# Altium footprint library 封装库.PCBLIB: 282 footprints (part 7 of 18)
Each footprint in its own frame and in the unit in brackets; x right, y up, seen from the top. Pads: shape width x height; smd on the part's side, far side on the other; paste and mask are expansions set on the pad; w line width, h text height; cw(c..) or ccw(c..) is an arc to the next point about the centre after c.
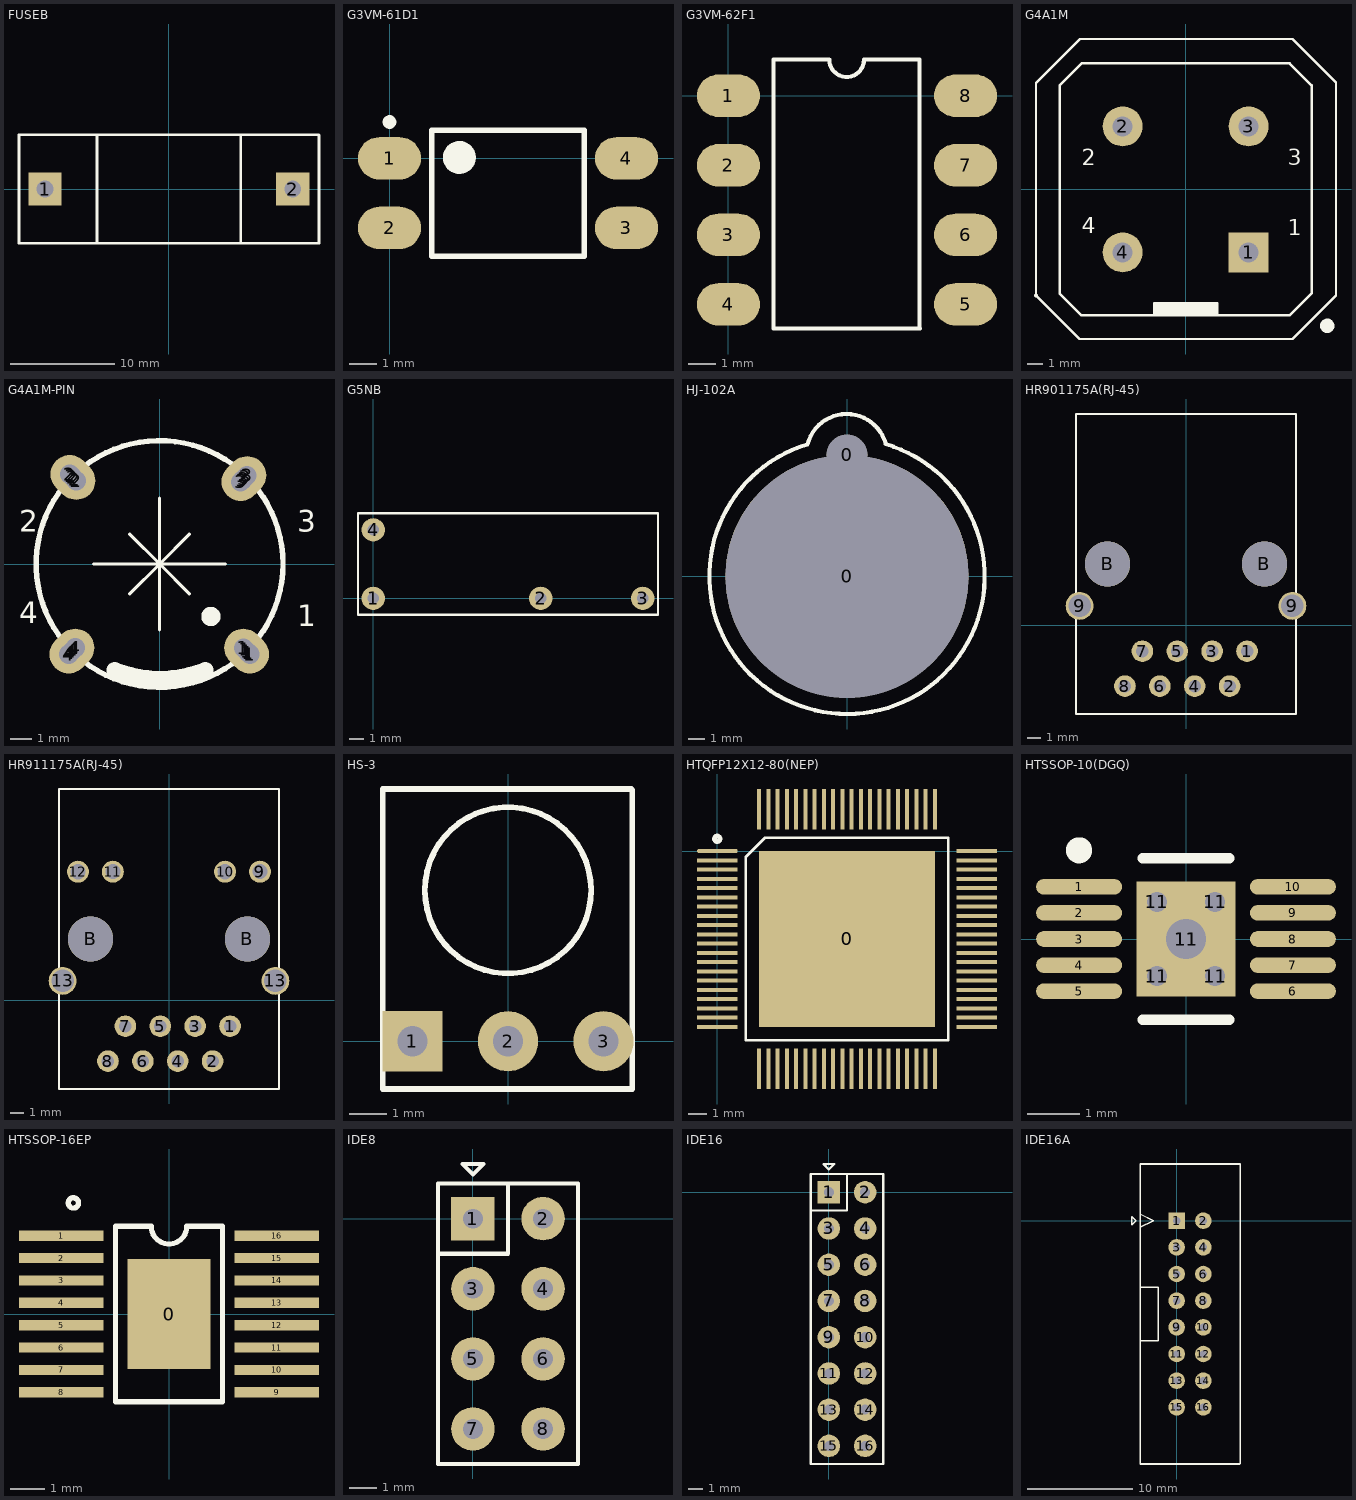
[diagram p6: the footprints below, top view; thin cyan lines are the x and y axes]

## FUSEB [mm]
pads (2):
  rect 3.2x3.2 hole 1.6: 1(-11.9,0) 2(11.9,0)
TopOverlay:
  lines w0.254: -14.4,-0.051 -14.4,5.205 ; -14.395,1.275 -14.395,-5.2 ; -12.7,-5.2 14.42,-5.2 ; -11.938,-5.2 -14.395,-5.2 ; -9.017,5.2 -14.395,5.2 ; -6.909,5.2 -6.9,5.191 -6.9,0 ; -6.9,-5.191 -6.9,4.851 ; 6.9,-5.198 6.9,4.928 ; 6.9,-0.254 6.9,5.191 ; 10.929,5.2 14.409,5.2 ; 14.42,2.66 14.42,-5.2 ; -14.4,5.205 -14.395,5.2 ; -14.4,5.205 -14.395,5.2 ; -14.4,5.205 -14.395,5.2 ; -14.4,5.205 -14.395,5.2 ; -14.395,-5.2 14.42,-5.2 ; -14.395,-5.2 -14.395,5.2 ; -14.395,5.2 14.409,5.2 ; 14.409,5.2 14.42,5.189 ; 14.42,-5.2 14.42,5.189 ; 14.42,-5.2 14.42,5.189

## G3VM-61D1 [mm]
height 3.65
pads (4):
  oval 2.3x1.55 smd: 1(0,0) 2(0,-2.54) 3(8.65,-2.54) 4(8.65,0)
TopOverlay:
  circle w0.6: c2.55,0.03 r0.3
  circle w0.25: c0,1.325 r0.125
  lines w0.2: 1.55,-3.57 7.1,-3.57 7.1,1.03 1.55,1.03 1.55,-3.57

## G3VM-62F1 [mm]
height 3.65
pads (8):
  oval 2.3x1.55 smd: 1(0,0) 2(0,-2.54) 3(0,-5.08) 4(0,-7.62) 5(8.661,-7.62) 6(8.661,-5.08) 7(8.661,-2.54) 8(8.661,0)
TopOverlay:
  lines w0.152: 1.651,-8.509 1.651,1.321 3.683,1.321 ccw(c4.318,1.321) 4.953,1.321 6.985,1.321 6.985,-8.509 ; 1.664,-8.509 6.998,-8.509

## G4A1M [mm]
pads (4):
  rect 2.54x2.54 / inner round 1.6 / far side rect 1.6x1.6 hole 1.27: 1(4,-4)
  round 2.54 hole 1.27: 2(-4,4) 3(4,4) 4(-4,-4)
TopOverlay:
  circle w0.508: c8.995,-8.661 r0.2
  rectangle: -2,-7.993 2,-7.239
  lines w0.152: -9.5,0 -9.5,6.757 ; -9.5,5.613 -9.5,-6.731 -6.731,-9.5 -0.33,-9.5 6.781,-9.5 9.55,-6.731 9.55,6.781 6.781,9.55 -6.706,9.55 -9.475,6.781 ; -8,-6.605 -6.604,-8.001 ; -8,-6.604 -8,6.604 ; -8,0.762 -8,6.604 ; -6.604,-8 6.604,-8 ; -2,-7.993 -2,-7.239 0,-7.239 2,-7.239 2,-7.993 ; 6.603,7.999 -6.605,7.999 -8,6.604 ; 6.605,-8 8,-6.605 ; 6.605,7.999 8,6.604 8,-6.604
  lines w0.254: -9.5,-6.731 -9.5,-6.731
  text "1" at 6.477,-2.921 h1.02
  text "2" at -6.604,1.524 h1.02
  text "3" at 6.477,1.524 h1.02
  text "4" at -6.604,-2.794 h1.02

## G4A1M-PIN [mm]
pads (20):
  round 1.8 hole 0.9: 1(3.94,-3.94) 1(4.016,-4.016) 1(4.092,-4.092) 1(4.168,-4.168) 1(4.244,-4.244) 2(-4.22,4.22) 2(-4.144,4.144) 2(-4.068,4.068) 2(-3.991,3.991) 2(-3.915,3.915) 3(3.81,3.861) 3(3.886,3.937) 3(3.962,4.013) 3(4.039,4.089) 3(4.115,4.166) 4(-4.267,-4.242) 4(-4.191,-4.166) 4(-4.115,-4.089) 4(-4.039,-4.013) 4(-3.962,-3.937)
TopOverlay:
  circle w0.254: c0,0 r5.8
  circle w0.508: c2.416,-2.464 r0.2
  lines w0.152: -3.099,0 0,0 ; -1.397,-1.397 0,0 ; -1.397,1.397 0,0 ; 0,-3.099 0,0 ; 0,3.099 0,0 ; 1.397,-1.397 0,0 ; 1.397,1.397 0,0 ; 3.099,0 0,0
  lines w0.254: -4.623,-4.521 -4.572,-4.521
  lines w0.762: -2.108,-4.978 ccw(c0.021,0.161) 2.149,-4.978
  text "4" at -6.604,-2.794 h1.02
  text "3" at 6.477,1.524 h1.02
  text "2" at -6.604,1.524 h1.02
  text "1" at 6.477,-2.921 h1.02

## G5NB [mm] "继电器AC250V,5A"
pads (4):
  round 1.6 hole 0.8: 1(0,0) 2(11.5,0) 3(18.5,0) 4(0,4.7)
TopOverlay:
  lines w0.152: -1.05,-1.15 -1.05,5.85 19.55,5.85 ; -1.05,-1.134 19.55,-1.134 19.55,5.866

## HJ-102A [mm]
pads (2):
  round 15 hole 15: 0(0,0)
  round 2.5 hole 2.5: 0(0,7.493)
TopOverlay:
  lines w0.254: -2.459,8.137 ccw(c0,0) 2.396,8.155 ; -2.438,8.153 cw(c-0.021,7.518) 2.395,8.164

## HR901175A(RJ-45) [mil]
pads (12):
  round 62 hole 36: 1(175,-75) 2(125,-175) 3(75,-75) 4(25,-175) 5(-25,-75) 6(-75,-175) 7(-125,-75) 8(-175,-175)
  round 80 hole 65: 9(-305,55) 9(305,55)
  round 130 hole 130: B(-225,175) B(225,175)
TopOverlay:
  lines w6: -315,-255 315,-255 315,605 -315,605 -315,-255

## HR911175A(RJ-45) [mil]
pads (16):
  round 62 hole 36: 1(175,-75) 2(125,-175) 3(75,-75) 4(25,-175) 5(-25,-75) 6(-75,-175) 7(-125,-75) 8(-175,-175)
  round 62.99 hole 43.31: 9(260.83,368) 10(160.83,367.91) 11(-161,368) 12(-261,367.91)
  round 80 hole 65: 13(-305,55) 13(305,55)
  round 130 hole 130: B(-225,175) B(225,175)
TopOverlay:
  lines w6: -315,-255 -315,605 315,605 315,-255 -315,-255

## HS-3 [mm]
pads (3):
  rect 1.6x1.6 hole 0.8: 1(-2.54,0)
  round 1.6 hole 0.8: 2(0,0) 3(2.54,0)
TopOverlay:
  circle w0.152: c0,4.013 r2.21
  lines w0.152: 3.302,0.432 3.302,6.68 3.277,6.706 -3.327,6.706 -3.327,1.27 -3.327,-1.27 3.302,-1.27 3.302,0.737

## HTQFP12X12-80(NEP) [mm]
pads (81):
  rect 9.5x9.5 smd: 0(7.01,-4.75)
  oval 2.2x0.22 smd: 1(0,0)
  rect 2.2x0.22 smd: 2(0,-0.5) 3(0,-1) 4(0,-1.5) 5(0,-2) 6(0,-2.5) 7(0,-3) 8(0,-3.5) 9(0,-4) 10(0,-4.5) 11(0,-5) 12(0,-5.5) 13(0,-6) 14(0,-6.5) 15(0,-7) 16(0,-7.5) 17(0,-8) 18(0,-8.5) 19(0,-9) 20(0,-9.5) 41(14,-9.5) 42(14,-9) 43(14,-8.5) 44(14,-8) 45(14,-7.5) 46(14,-7) 47(14,-6.5) 48(14,-6) 49(14,-5.5) 50(14,-5) 51(14,-4.5) 52(14,-4) 53(14,-3.5) 54(14,-3) 55(14,-2.5) 56(14,-2) 57(14,-1.5) 58(14,-1) 59(14,-0.5) 60(14,0)
  rect 0.22x2.2 smd: 21(2.25,-11.75) 22(2.75,-11.75) 23(3.25,-11.75) 24(3.75,-11.75) 25(4.25,-11.75) 26(4.75,-11.75) 27(5.25,-11.75) 28(5.75,-11.75) 29(6.25,-11.75) 30(6.75,-11.75) 31(7.25,-11.75) 32(7.75,-11.75) 33(8.25,-11.75) 34(8.75,-11.75) 35(9.25,-11.75) 36(9.75,-11.75) 37(10.25,-11.75) 38(10.75,-11.75) 39(11.25,-11.75) 40(11.75,-11.75) 61(11.75,2.25) 62(11.25,2.25) 63(10.75,2.25) 64(10.25,2.25) 65(9.75,2.25) 66(9.25,2.25) 67(8.75,2.25) 68(8.25,2.25) 69(7.75,2.25) 70(7.25,2.25) 71(6.75,2.25) 72(6.25,2.25) 73(5.75,2.25) 74(5.25,2.25) 75(4.75,2.25) 76(4.25,2.25) 77(3.75,2.25) 78(3.25,2.25) 79(2.75,2.25) 80(2.25,2.25)
TopOverlay:
  circle w0.254: c-0.008,0.66 r0.15
  lines w0.152: 1.535,-10.215 12.465,-10.215 12.465,0.715 2.57,0.715 1.535,-0.32 1.535,-10.215

## HTSSOP-10(DGQ) [mm] "HTSSOP, 10-Leads, Body 3.1x3.1mm (max), Pitch 0.50mm, IPC Medium Density"
height 1.1
pads (16):
  oval 1.65x0.3 smd: 1(-2.05,1) 2(-2.05,0.5) 3(-2.05,0) 4(-2.05,-0.5) 5(-2.05,-1) 6(2.05,-1) 7(2.05,-0.5) 8(2.05,0) 9(2.05,0.5) 10(2.05,1)
  round 0.635 hole 0.381: 11(-0.559,-0.711) 11(-0.559,0.711) 11(0.559,-0.711) 11(0.559,0.711)
  rect 1.9x2.2 smd: 11(0,0)
  round 1.27 hole 0.762: 11(0,0)
TopOverlay:
  circle w0.25: c-2.05,1.7 r0.125
  lines w0.1: -0.5,0 0.5,0 ; 0,-0.5 0,0.5
  lines w0.2: -0.825,-1.55 0.825,-1.55 ; -0.825,1.55 0.825,1.55

## HTSSOP-16EP [mm]
pads (17):
  rect 2.4x3.2 smd: 0(0,0)
  rect 2.45x0.3 smd: 1(-3.131,2.275) 2(-3.131,1.625) 3(-3.131,0.975) 4(-3.131,0.325) 5(-3.131,-0.325) 6(-3.131,-0.975) 7(-3.131,-1.625) 8(-3.131,-2.275) 9(3.131,-2.275) 10(3.131,-1.625) 11(3.131,-0.975) 12(3.131,-0.325) 13(3.131,0.325) 14(3.131,0.975) 15(3.131,1.625) 16(3.131,2.275)
TopOverlay:
  circle w0.152: c-2.775,3.225 r0.15
  lines w0.152: -1.55,-2.55 1.55,-2.55 1.55,2.55 0.517,2.55 cw(c0,2.55) -0.517,2.55 -1.55,2.55 -1.55,-2.55

## IDE8 [mil] "PIN Header Dual Row,2.54mm"
pads (8):
  rect 62x62 hole 28: 1(0,0)
  round 62 hole 28: 2(100,0) 3(0,-100) 4(100,-100) 5(0,-200) 6(100,-200) 7(0,-300) 8(100,-300)
TopOverlay:
  lines w6: -50,-50 50,-50 50,50 ; -50,-350 150,-350 150,50 -50,50 -50,-350 ; -15,78 0,63 15,78 -15,78

## IDE16 [mil] "PIN Header Dual Row,2.54mm"
pads (16):
  rect 62x62 hole 28: 1(0,0)
  round 62 hole 28: 2(100,0) 3(0,-100) 4(100,-100) 5(0,-200) 6(100,-200) 7(0,-300) 8(100,-300) 9(0,-400) 10(100,-400) 11(0,-500) 12(100,-500) 13(0,-600) 14(100,-600) 15(0,-700) 16(100,-700)
TopOverlay:
  lines w6: -50,-50 50,-50 50,50 ; -33,-750 150,-750 150,50 -50,50 -50,-750 100,-750 ; -15,78 15,78 0,63 -15,78

## IDE16A [mil] "box header,2.54mm"
pads (16):
  rect 62x62 hole 28: 1(0,0)
  round 62 hole 28: 2(100,0) 3(0,-100) 4(100,-100) 5(0,-200) 6(100,-200) 7(0,-300) 8(100,-300) 9(0,-400) 10(100,-400) 11(0,-500) 12(100,-500) 13(0,-600) 14(100,-600) 15(0,-700) 16(100,-700)
TopOverlay:
  lines w6: -137.5,-912 -137.5,-546 ; -137.5,-612.5 -137.5,212.5 237.5,212.5 237.5,-612.5 ; -137.5,-450 -70.04,-450 -70.04,-250 -137.5,-250 ; -137.5,-25 -87.5,0 -137.5,25 ; -137,-912.5 0,-912.5 ; -100,-912.5 237,-912.5 ; 237.5,-912 237.5,-592 ; -168,-15 -168,15 -153,0 -168,-15